# EAGLE library part OPA1632 (library OPA1632)
OP-AMP Audio Grade, Fully-Differential Check availability <https://pricing.snapeda.com/parts/OPA1632/Texas%20Instruments/view-part?ref=eda>
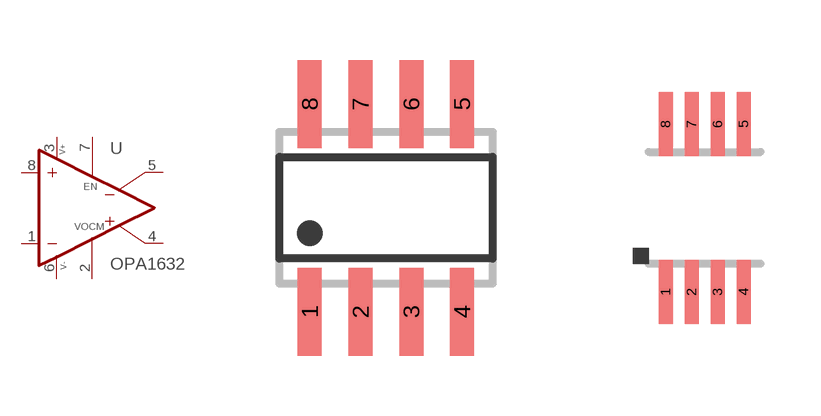
[diagram p0: symbol with the pads of SO08; footprints SO08, MSOP08-PP]

Designator prefix U

## OPA1632D (Availability: In Stock; Description: Audio Amp Speaker 1-CH Mono/2-CH Stereo/4-CH Stereo Class-AB 8-Pin SOIC Tube; MF: Texas Instruments; MP: OPA1632; Package: - Texas Instruments; Price: None; Purchase-URL: https://pricing.snapeda.com/search/part/OPA1632/?ref=eda)  [SO08]
1  -IN  in
2  VOCM  in
3  V+  pwr
4  +OUT  out
5  -OUT  out
6  V-  pwr
7  EN  in
8  +IN  in

## OPA1632DGN (Availability: In Stock; Description: Audio Amp Speaker 1-CH Mono/2-CH Stereo/4-CH Stereo Class-AB 8-Pin SOIC Tube; MF: Texas Instruments; MP: OPA1632; Package: - Texas Instruments; Price: None; Purchase-URL: https://pricing.snapeda.com/search/part/OPA1632/?ref=eda)  [MSOP08-PP]
Pads as for SO08

## Footprint SO08 (pad centres in mm)
SMALL OUTLINE INTEGRATED CIRCUIT body 3.9 mm/JEDEC MS-012AA
smd 0.6 x 2.2: 1 -1.905,-2.6; 2 -0.635,-2.6; 3 0.635,-2.6; 4 1.905,-2.6; 5 1.905,2.6; 6 0.635,2.6; 7 -0.635,2.6; 8 -1.905,2.6

## Footprint MSOP08-PP (pad centres in mm)
MSOP 8 - PowerPAD pitch 0.65 mm, DGN package Texas Instruments
smd 0.35 x 1.6: 1 -0.975,-2.1; 2 -0.325,-2.1; 3 0.325,-2.1; 4 0.975,-2.1; 5 0.975,2.1; 6 0.325,2.1; 7 -0.325,2.1; 8 -0.975,2.1